# EAGLE library part 74257_DIP-16 (library mylib)
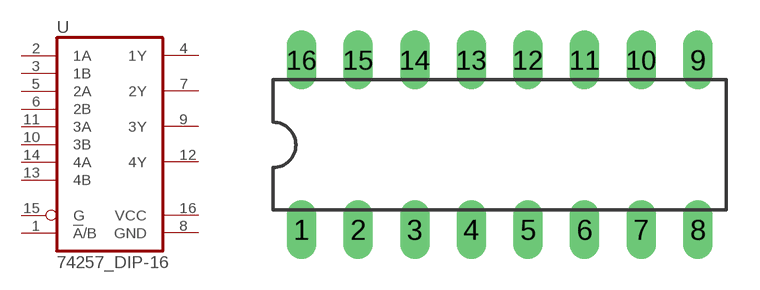
[diagram p5: symbol with the pads of DIL16; footprint DIL16]

Designator prefix -

## 74257_DIP-16  [DIL16]
1  !A!/B  in
2  1A  in
3  1B  in
4  1Y  hiz
5  2A  in
6  2B  in
7  2Y  hiz
8  GND
9  3Y  hiz
10  3B  in
11  3A  in
12  4Y  hiz
13  4B  in
14  4A  in
15  G  in
16  VCC

## Footprint DIL16 (pad centres in mm)
Dual In Line Package
drill 0.813 long: 1 -8.89,-3.81; 2 -6.35,-3.81; 3 -3.81,-3.81; 4 -1.27,-3.81; 5 1.27,-3.81; 6 3.81,-3.81; 7 6.35,-3.81; 8 8.89,-3.81; 9 8.89,3.81; 10 6.35,3.81; 11 3.81,3.81; 12 1.27,3.81; 13 -1.27,3.81; 14 -3.81,3.81; 15 -6.35,3.81; 16 -8.89,3.81